# Altium footprint library PCB - LEADED - SOP - TI TSSOP-16 PW0016A.PCBLIB: 1 footprints
Each footprint in its own frame and in the unit in brackets; x right, y up, seen from the top. Pads: shape width x height; smd on the part's side, far side on the other; paste and mask are expansions set on the pad; w line width, h text height; cw(c..) or ccw(c..) is an arc to the next point about the centre after c.
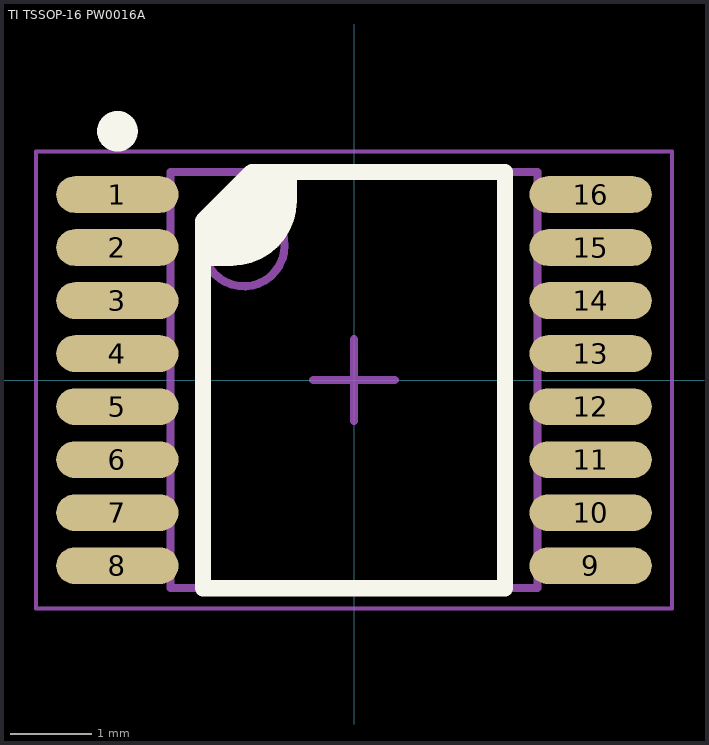
[diagram p0: the footprint, top view; thin cyan lines are the x and y axes]

## TI TSSOP-16 PW0016A [mm] "TSSOP, 16-Leads, Body 5.00x4.40mm, Pitch 0.65mm, IPC Medium Density"
height 1.2
pads (16):
  oval 1.5x0.45 smd: 1(-2.9,2.275) 2(-2.9,1.625) 3(-2.9,0.975) 4(-2.9,0.325) 5(-2.9,-0.325) 6(-2.9,-0.975) 7(-2.9,-1.625) 8(-2.9,-2.275) 9(2.9,-2.275) 10(2.9,-1.625) 11(2.9,-0.975) 12(2.9,-0.325) 13(2.9,0.325) 14(2.9,0.975) 15(2.9,1.625) 16(2.9,2.275)
Top Overlay:
  circle w0.25: c-2.9,3.05 r0.125
  region: -1.25,2.55 -1.25,2.5 -0.8,2.5 -0.8,2.2 -0.8,2.131 -0.827,1.996 -0.88,1.868 -0.956,1.754 -1.054,1.656 -1.168,1.58 -1.296,1.527 -1.431,1.5 -1.5,1.5 -1.8,1.5 -1.8,1.9 -1.801,1.91 -1.808,1.928 -1.822,1.942 -1.84,1.949 -1.85,1.95
  lines w0.2: -1.8,1.5 -1.5,1.5 ccw(c-1.5,2.2) -0.8,2.2 -0.8,2.5 ; -1.85,-2.55 -1.85,1.95 -1.25,2.55 1.85,2.55 1.85,-2.55 -1.85,-2.55
Top Assembly:
  circle w0.1: c-1.35,1.65 r0.5
  lines w0.1: -2.25,-2.55 -2.25,2.55 2.25,2.55 2.25,-2.55 -2.25,-2.55
Top Courtyard:
  lines w0.05: -3.9,-2.8 -3.9,2.8 3.9,2.8 3.9,-2.8 -3.9,-2.8
Top Component Center (Mech9):
  lines w0.1: -0.5,0 0.5,0 ; 0,-0.5 0,0.5
3D body "TI TSSOP-16 PW0016A.step": height 1.2, standoff 0, extent -3.2,-2.55 3.2,2.55